# Altium footprint library OMD.PcbLib: 62 footprints (part 3 of 4)
Each footprint in its own frame and in the unit in brackets; x right, y up, seen from the top. Pads: shape width x height; smd on the part's side, far side on the other; paste and mask are expansions set on the pad; w line width, h text height; cw(c..) or ccw(c..) is an arc to the next point about the centre after c.
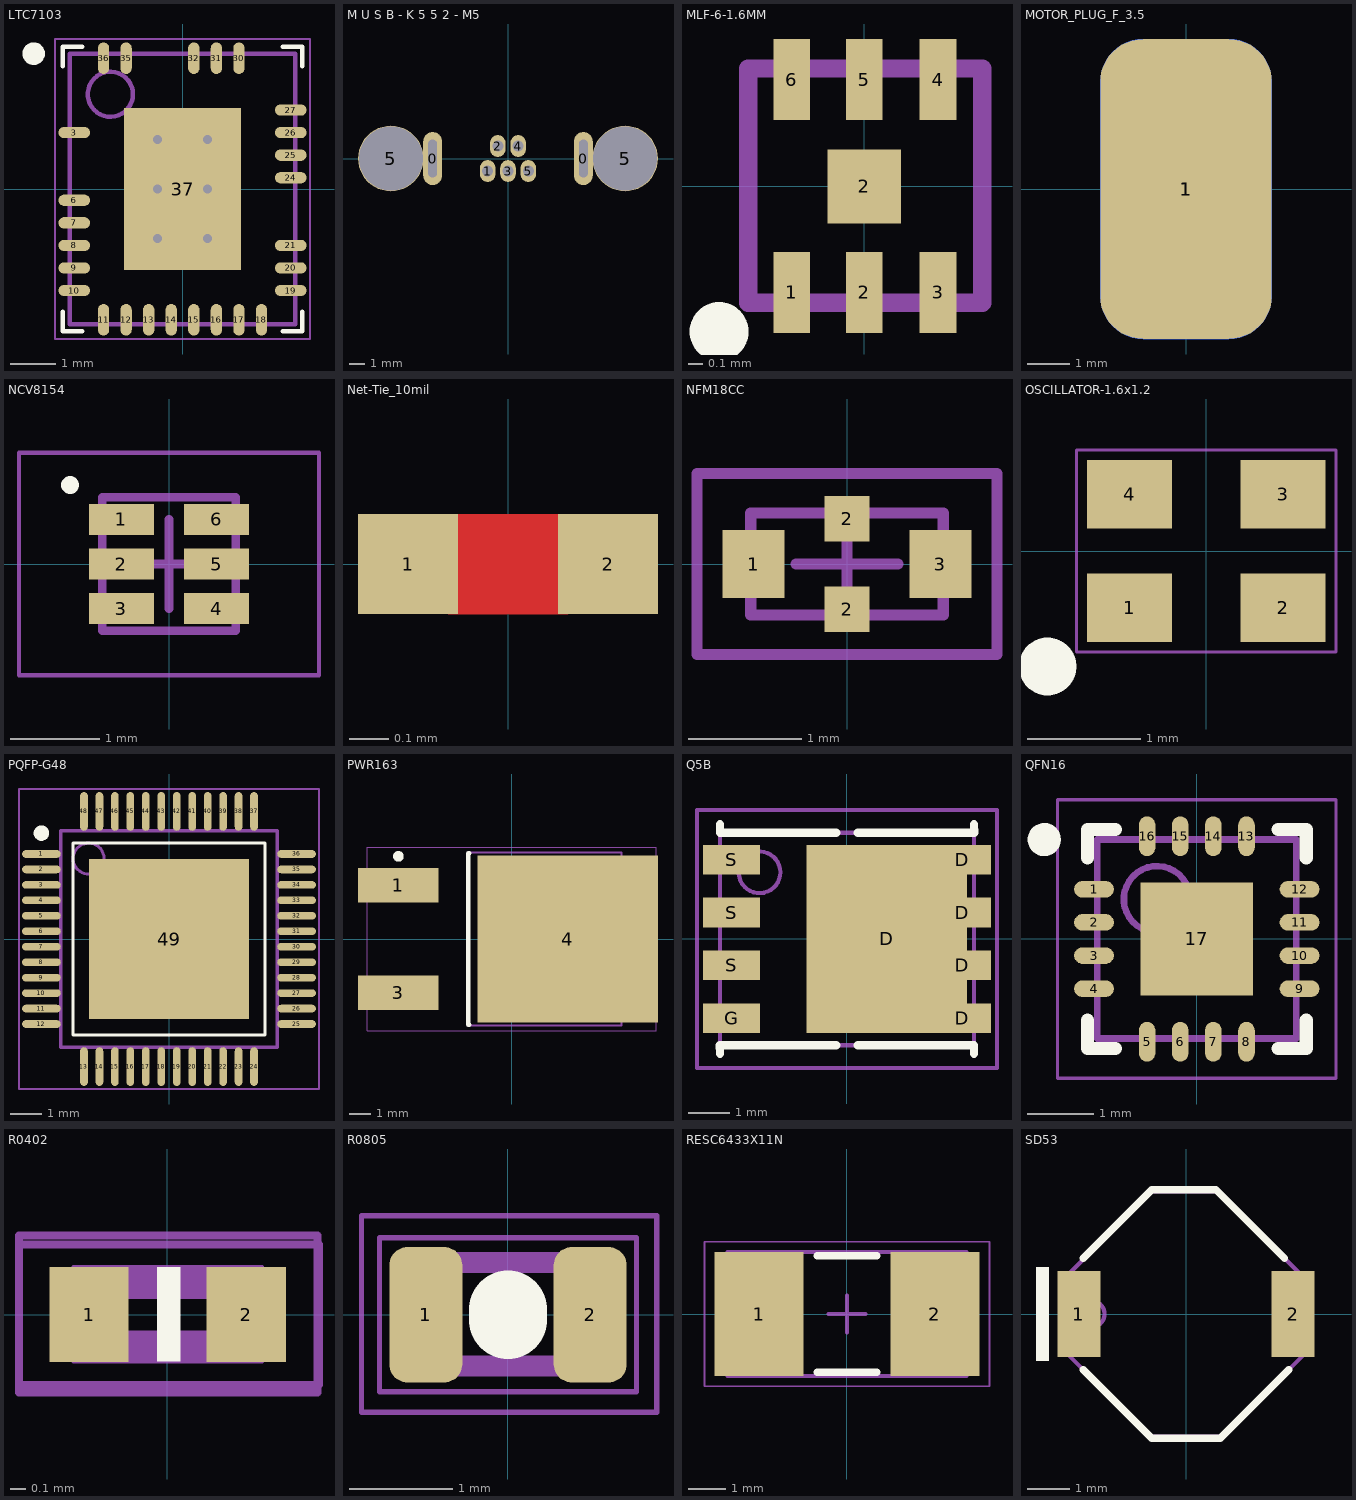
[diagram p2: the footprints below, top view; thin cyan lines are the x and y axes]

## LTC7103 [mm]
height 0.75
pads (27):
  oval 0.7x0.25 smd: 3(-2.4,1.25) 6(-2.4,-0.25) 7(-2.4,-0.75) 8(-2.4,-1.25) 9(-2.4,-1.75) 10(-2.4,-2.25) 19(2.4,-2.25) 20(2.4,-1.75) 21(2.4,-1.25) 24(2.4,0.25) 25(2.4,0.75) 26(2.4,1.25) 27(2.4,1.75)
  oval 0.25x0.7 smd: 11(-1.75,-2.9) 12(-1.25,-2.9) 13(-0.75,-2.9) 14(-0.25,-2.9) 15(0.25,-2.9) 16(0.75,-2.9) 17(1.25,-2.9) 18(1.75,-2.9) 30(1.25,2.9) 31(0.75,2.9) 32(0.25,2.9) 35(-1.25,2.9) 36(-1.75,2.9)
  rect 2.6x3.6 smd: 37(0,0)
via 0.55,-1.1 diameter 0.5 hole 0.2
via -0.55,-1.1 diameter 0.5 hole 0.2
via 0.55,0 diameter 0.5 hole 0.2
via -0.55,0 diameter 0.5 hole 0.2
via 0.55,1.1 diameter 0.5 hole 0.2
via -0.55,1.1 diameter 0.5 hole 0.2
Top Overlay:
  circle w0.25: c-3.3,3 r0.125
  lines w0.1: -2.65,-2.725 -2.65,-3.15 -2.225,-3.15 ; -2.65,2.725 -2.65,3.15 -2.225,3.15 ; 2.225,-3.15 2.65,-3.15 2.65,-2.725 ; 2.225,3.15 2.65,3.15 2.65,2.725
Mechanical 13:
  circle w0.1: c-1.6,2.1 r0.5
  lines w0.1: -2.5,-3 2.5,-3 2.5,3 -2.5,3 -2.5,-3
Mechanical 15:
  lines w0.05: -2.825,-3.325 2.825,-3.325 2.825,3.325 -2.825,3.325 -2.825,-3.325
  lines w0.1: -0.5,0 0.5,0 ; 0,-0.5 0,0.5
3D body "LTC7103.step": height 0.75, standoff 0, extent -2.55,-3.05 2.55,3.05

## M U S B - K 5 5 2 - M5 [mm] "USB connector"
pads (9):
  oval 1.2x3.4 hole 0.55 slot 2.4 at 90 deg: 0(-4.825,0) 0(4.825,0)
  oval 1x1.4 hole 0.7: 1(-1.3,-0.8) 2(-0.65,0.8) 3(0,-0.8) 4(0.65,0.8) 5(1.3,-0.8)
  round 4.2 hole 4.1: 5(-7.5,0) 5(7.5,0)
Bottom Overlay:
  lines w0.254: -4.6,-6 4.6,-6
3D body "M-MUSB-K552-X0-REVT2.STEP": height 10.7, standoff -3.09, extent -10,-6.033 10,4.968

## MLF-6-1.6MM [mil] "MLF-6-1.6MM"
pads (7):
  rect 10x22 smd: 1(-19.68,-28.74) 2(0,-28.74) 3(20,-28.74) 4(20,29) 5(0,29) 6(-19.68,29)
  rect 20x20 smd: 2(0,0)
Top Overlay:
  circle w12: c-39.37,-39.37 r2
Mechanical 16:
  lines w5: -31.5,-31.5 32,-31.5 32,32 -31.5,32 -31.5,-31.5

## MOTOR_PLUG_F_3.5 [mm]
pads (4):
  rrect50% 4x7 smd far side: 1(0,0)
  rrect50% 4x7 on Mid2: 1(0,0)
  rrect50% 4x7 on Mid1: 1(0,0)
  rrect50% 4x7 smd: 1(0,0)

## NCV8154 [mm] "ldo 1.8v 2.8v"
height 0.7
pads (6):
  rect 0.73x0.35 smd: 1(-0.535,0.5) 2(-0.535,0) 3(-0.535,-0.5) 4(0.535,-0.5) 5(0.535,0) 6(0.535,0.5)
Top Overlay:
  circle w0.1: c-1.112,0.887 r0.05
Mechanical 13:
  lines w0.1: -0.75,-0.75 0.75,-0.75 0.75,0.75 -0.75,0.75 -0.75,-0.75
Mechanical 15:
  lines w0.05: -1.685,-1.25 1.685,-1.25 1.685,1.25 -1.685,1.25 -1.685,-1.25
  lines w0.1: -0.5,0 0.5,0 ; 0,-0.5 0,0.5

## Net-Tie_10mil [mil] "10mil net tie, no solder mask opening, no solder paste"
pads (2):
  rect 10x10 smd paste-5 mask-5: 1(-10,0) 2(10,0)
Top Layer:
  region: -6,5 6,5 6,-5 -6,-5

## NFM18CC [mm] "Chip Capacitor, 3-Leads, Body 1.6x0.8mm"
height 0.7
pads (4):
  rect 0.55x0.6 smd: 1(-0.825,0) 3(0.825,0)
  rect 0.4x0.4 smd: 2(0,-0.4) 2(0,0.4)
Mechanical 13:
  lines w0.1: -0.85,-0.45 -0.85,0.45 0.85,0.45 0.85,-0.45 -0.85,-0.45
Mechanical 15:
  lines w0.1: -0.45,0 0.45,0 ; 0,-0.45 0,0.45 ; -1.325,-0.8 1.325,-0.8 1.325,0.8 -1.325,0.8 -1.325,-0.8
3D body: height 0.7, standoff 0, extent -0.85,-0.45 0.85,0.45

## OSCILLATOR-1.6x1.2 [mm] "OSCILLATOR-1.6x1.2"
pads (4):
  rect 0.75x0.6 smd: 1(-0.675,-0.5) 2(0.675,-0.5) 3(0.675,0.5) 4(-0.675,0.5)
Top Overlay:
  circle w0.305: c-1.397,-1.016 r0.102
Mechanical 16:
  lines w0.025: -1.143,-0.889 1.141,-0.889 1.141,0.889 -1.143,0.889 -1.143,-0.889

## PQFP-G48 [mm] "TSQFP, 48-Leads, Body 7.00x7.00mm, Pitch 0.50mm, Thermal Pad 5.17x5.17mm, IPC High Density"
height 1.05
pads (49):
  oval 1.25x0.25 smd: 1(-4.125,2.75) 2(-4.125,2.25) 3(-4.125,1.75) 4(-4.125,1.25) 5(-4.125,0.75) 6(-4.125,0.25) 7(-4.125,-0.25) 8(-4.125,-0.75) 9(-4.125,-1.25) 10(-4.125,-1.75) 11(-4.125,-2.25) 12(-4.125,-2.75) 25(4.125,-2.75) 26(4.125,-2.25) 27(4.125,-1.75) 28(4.125,-1.25) 29(4.125,-0.75) 30(4.125,-0.25) 31(4.125,0.25) 32(4.125,0.75) 33(4.125,1.25) 34(4.125,1.75) 35(4.125,2.25) 36(4.125,2.75)
  oval 0.25x1.25 smd: 13(-2.75,-4.125) 14(-2.25,-4.125) 15(-1.75,-4.125) 16(-1.25,-4.125) 17(-0.75,-4.125) 18(-0.25,-4.125) 19(0.25,-4.125) 20(0.75,-4.125) 21(1.25,-4.125) 22(1.75,-4.125) 23(2.25,-4.125) 24(2.75,-4.125) 37(2.75,4.125) 38(2.25,4.125) 39(1.75,4.125) 40(1.25,4.125) 41(0.75,4.125) 42(0.25,4.125) 43(-0.25,4.125) 44(-0.75,4.125) 45(-1.25,4.125) 46(-1.75,4.125) 47(-2.25,4.125) 48(-2.75,4.125)
  rect 5.17x5.17 smd: 49(0,0)
Top Overlay:
  circle w0.25: c-4.125,3.425 r0.125
  lines w0.1: -3.1,-3.1 -3.1,3.1 3.1,3.1 3.1,-3.1 -3.1,-3.1
Mechanical 13:
  circle w0.1: c-2.6,2.6 r0.5
  lines w0.1: -3.5,-3.5 -3.5,3.5 3.5,3.5 3.5,-3.5 -3.5,-3.5
Mechanical 15:
  lines w0.05: -4.85,-4.85 -4.85,4.85 4.85,4.85 4.85,-4.85 -4.85,-4.85
  lines w0.1: -0.5,0 0.5,0 ; 0,-0.5 0,0.5
3D body: height 1.05, standoff 0.08, extent -3.5,-3.5 3.5,3.5

## PWR163 [mm] "TO, 3-Pads, Body 6.72x7.43mm (max), IPC Medium Density"
height 2.79
pads (3):
  rect 3.81x1.62 smd: 1(-5.35,2.54) 3(-5.35,-2.54)
  rect 8.51x7.87 smd: 4(2.65,0)
Top Overlay:
  circle w0.25: c-5.35,3.9 r0.125
  lines w0.2: -2.005,-4.05 -2.05,-4.05 -2.05,4.05 -2.005,4.05
Mechanical 13:
  lines w0.1: -2.05,-4.075 5.19,-4.075 5.19,4.075 -2.05,4.075 -2.05,-4.075
Mechanical 15:
  lines w0.05: -6.825,-4.325 6.825,-4.325 6.825,4.325 -6.825,4.325 -6.825,-4.325
  lines w0.1: -0.5,0 0.5,0 ; 0,-0.5 0,0.5
3D body "PWR163.step": height 2.79, standoff 0, extent -5.94,-4.012 6.35,4.139

## Q5B [mm] "TI Q5B, 8-Leads, Body 5.1x6.1mm (max), Pitch 1.27mm, IPC Medium Density"
height 1.05
pads (9):
  rect 3.85x4.52 smd: D(0.95,0)
  rect 1.37x0.71 smd: D(2.77,-1.905) D(2.77,-0.635) D(2.77,0.635) D(2.77,1.905) G(-2.77,-1.905) S(-2.77,-0.635) S(-2.77,0.635) S(-2.77,1.905)
Top Overlay:
  lines w0.2: -3.05,-2.755 -3.05,-2.55 -0.255,-2.55 ; -3.05,2.755 -3.05,2.55 -0.255,2.55 ; 0.255,-2.55 3.05,-2.55 3.05,-2.755 ; 0.255,2.55 3.05,2.55 3.05,2.755
Mechanical 13:
  circle w0.1: c-2.1,1.6 r0.5
  lines w0.1: -3.05,-2.55 -3.05,2.55 3.05,2.55 3.05,-2.55 -3.05,-2.55
Mechanical 15:
  lines w0.1: -0.5,0 0.5,0 ; 0,-0.5 0,0.5 ; -3.6,-3.1 -3.6,3.1 3.6,3.1 3.6,-3.1 -3.6,-3.1
3D body: height 1.05, standoff 0, extent -3.05,-2.55 3.05,2.55

## QFN16 [mm]
height 0.9
pads (17):
  oval 0.6x0.25 smd: 1(-1.55,0.75) 2(-1.55,0.25) 3(-1.55,-0.25) 4(-1.55,-0.75) 9(1.55,-0.75) 10(1.55,-0.25) 11(1.55,0.25) 12(1.55,0.75)
  oval 0.25x0.6 smd: 5(-0.75,-1.55) 6(-0.25,-1.55) 7(0.25,-1.55) 8(0.75,-1.55) 13(0.75,1.55) 14(0.25,1.55) 15(-0.25,1.55) 16(-0.75,1.55)
  rect 1.7x1.7 smd: 17(0,0)
Top Overlay:
  circle w0.25: c-2.3,1.5 r0.125
  lines w0.2: -1.65,-1.225 -1.65,-1.65 -1.225,-1.65 ; -1.65,1.225 -1.65,1.65 -1.225,1.65 ; 1.225,-1.65 1.65,-1.65 1.65,-1.225 ; 1.225,1.65 1.65,1.65 1.65,1.225
Mechanical 13:
  circle w0.1: c-0.6,0.6 r0.5
  lines w0.1: -1.5,-1.5 -1.5,1.5 1.5,1.5 1.5,-1.5 -1.5,-1.5
Mechanical 15:
  lines w0.05: -2.1,-2.1 -2.1,2.1 2.1,2.1 2.1,-2.1 -2.1,-2.1
  lines w0.1: -0.5,0 0.5,0 ; 0,-0.5 0,0.5
3D body: height 0.9, standoff 0.2, extent -1.5,-1.5 1.5,1.5

## R0402 [mil]
height 66.93
pads (2):
  rect 20x24 smd: 1(-19.68,0) 2(20,0)
Top Overlay:
  rectangle: -2.6,-11.82 3.4,11.99
Mechanical 2:
  lines w1.97: -37.4,-17.72 -37.4,17.72 38.39,17.72 38.39,-17.72 -37.4,-17.72
Mechanical 15:
  rectangle: 16,-12 28,12
  rectangle: -28,-12 -16,12
  lines w1: -23.62,-11.81 -23.62,12 24,12 24,-11.81 -23.62,-11.81
  lines w2: -37.4,-19.68 -37.4,20 38,20 38,-19.68 -37.4,-19.68
  lines w8: -20,-8 20,-8 ; -20,8 20,8
3D body "RES0402.stp": height 11.81, standoff 0, extent -19.68,-9.84 19.69,9.85

## R0805 [mil]
height 66.93
pads (2):
  rrect50% 28x52 smd mask+0: 1(-31.5,0) 2(31.5,0)
Top Overlay:
  lines w30: 0,-2 0,2
Mechanical 2:
  lines w1.97: -49.21,-29.53 -49.21,29.53 49.21,29.53 49.21,-29.53 -49.21,-29.53
Mechanical 15:
  rectangle: -39.37,-23.67 -23.62,24
  rectangle: 24,-23.67 40,24
  lines w2: -56.1,-37.4 57,-37.4 57,38 -56.1,38 -56.1,-37.4
  lines w8: -23.62,-19.68 24,-19.68 ; -23.62,20 24,20
3D body "RES0805.stp": height 19.68, standoff 0, extent -39.37,-24.8 39.37,24.41

## RESC6433X11N [mm] "Chip Resistor, 2-Leads, Body 6.40x3.28mm, IPC Medium Density"
height 1.1
pads (2):
  rect 2.4x3.35 smd: 1(-2.375,0) 2(2.375,0)
Top Overlay:
  lines w0.2: -0.8,-1.575 0.8,-1.575 ; -0.8,1.575 0.8,1.575
Mechanical 13:
  lines w0.1: -3.225,-1.675 3.225,-1.675 3.225,1.675 -3.225,1.675 -3.225,-1.675
Mechanical 15:
  lines w0.05: -3.85,-1.95 3.85,-1.95 3.85,1.95 -3.85,1.95 -3.85,-1.95
  lines w0.1: -0.5,0 0.5,0 ; 0,-0.5 0,0.5
3D body "RESC6433X11N.step": height 1.1, standoff 0, extent -3.225,-1.675 3.225,1.675

## SD53 [mm] "COOPER BUSSMAN"
height 3
pads (2):
  rect 1x2 smd: 1(-2.5,0) 2(2.5,0)
Top Overlay:
  rectangle: -3.5,-1.1 -3.2,1.1
  lines w0.17: -2.4,-1.3 -0.8,-2.9 0.8,-2.9 2.4,-1.3 ; -2.4,1.3 -0.8,2.9 0.7,2.9 2.3,1.3
Mechanical 5:
  circle w0.1: c-2.2,0 r0.3
  lines w0.1: -2.86,-0.84 -2.86,0.811 -0.811,2.86 0.74,2.86 2.86,0.74 2.86,-0.84 0.84,-2.86 -0.84,-2.86 -2.86,-0.84
3D body: height 3.01, standoff 2, extent -2.499,-0.299 -1.901,0.299
3D body: height 3, standoff 0, extent -2.861,-2.861 2.861,2.861